# Altium schematic symbol library SCH - MCU - INFINEON XMC - INFINEON XMC1402T038.SchLib: 1 symbol
Pins are listed as number, name and electrical type; pins without a type are passive.

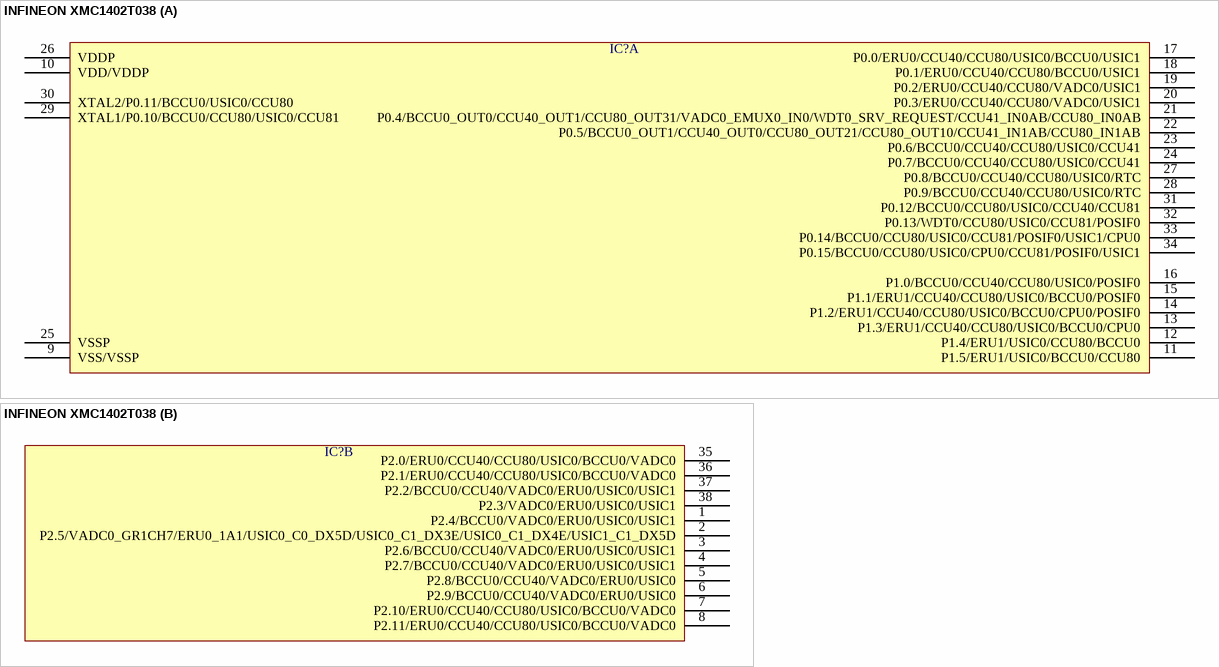
[diagram p0: symbol INFINEON XMC1402T038]

## INFINEON XMC1402T038
designator IC?  (value not drawn)
part A pins: 9 VSS/VSSP, 10 VDD/VDDP, 11 P1.5/ERU1/USIC0/BCCU0/CCU80, 12 P1.4/ERU1/USIC0/CCU80/BCCU0, 13 P1.3/ERU1/CCU40/CCU80/USIC0/BCCU0/CPU0, 14 P1.2/ERU1/CCU40/CCU80/USIC0/BCCU0/CPU0/POSIF0, 15 P1.1/ERU1/CCU40/CCU80/USIC0/BCCU0/POSIF0, 16 P1.0/BCCU0/CCU40/CCU80/USIC0/POSIF0, 17 P0.0/ERU0/CCU40/CCU80/USIC0/BCCU0/USIC1, 18 P0.1/ERU0/CCU40/CCU80/BCCU0/USIC1, 19 P0.2/ERU0/CCU40/CCU80/VADC0/USIC1, 20 P0.3/ERU0/CCU40/CCU80/VADC0/USIC1, 21 P0.4/BCCU0_OUT0/CCU40_OUT1/CCU80_OUT31/VADC0_EMUX0_IN0/WDT0_SRV_REQUEST/CCU41_IN0AB/CCU80_IN0AB, 22 P0.5/BCCU0_OUT1/CCU40_OUT0/CCU80_OUT21/CCU80_OUT10/CCU41_IN1AB/CCU80_IN1AB, 23 P0.6/BCCU0/CCU40/CCU80/USIC0/CCU41, 24 P0.7/BCCU0/CCU40/CCU80/USIC0/CCU41, 25 VSSP, 26 VDDP, 27 P0.8/BCCU0/CCU40/CCU80/USIC0/RTC, 28 P0.9/BCCU0/CCU40/CCU80/USIC0/RTC, 29 XTAL1/P0.10/BCCU0/CCU80/USIC0/CCU81, 30 XTAL2/P0.11/BCCU0/USIC0/CCU80, 31 P0.12/BCCU0/CCU80/USIC0/CCU40/CCU81, 32 P0.13/WDT0/CCU80/USIC0/CCU81/POSIF0, 33 P0.14/BCCU0/CCU80/USIC0/CCU81/POSIF0/USIC1/CPU0, 34 P0.15/BCCU0/CCU80/USIC0/CPU0/CCU81/POSIF0/USIC1
part B pins: 1 P2.4/BCCU0/VADC0/ERU0/USIC0/USIC1, 2 P2.5/VADC0_GR1CH7/ERU0_1A1/USIC0_C0_DX5D/USIC0_C1_DX3E/USIC0_C1_DX4E/USIC1_C1_DX5D, 3 P2.6/BCCU0/CCU40/VADC0/ERU0/USIC0/USIC1, 4 P2.7/BCCU0/CCU40/VADC0/ERU0/USIC0/USIC1, 5 P2.8/BCCU0/CCU40/VADC0/ERU0/USIC0, 6 P2.9/BCCU0/CCU40/VADC0/ERU0/USIC0, 7 P2.10/ERU0/CCU40/CCU80/USIC0/BCCU0/VADC0, 8 P2.11/ERU0/CCU40/CCU80/USIC0/BCCU0/VADC0, 35 P2.0/ERU0/CCU40/CCU80/USIC0/BCCU0/VADC0, 36 P2.1/ERU0/CCU40/CCU80/USIC0/BCCU0/VADC0, 37 P2.2/BCCU0/CCU40/VADC0/ERU0/USIC0/USIC1, 38 P2.3/VADC0/ERU0/USIC0/USIC1